# EAGLE library part PAN132X (library BluetoothBLE_SPP)
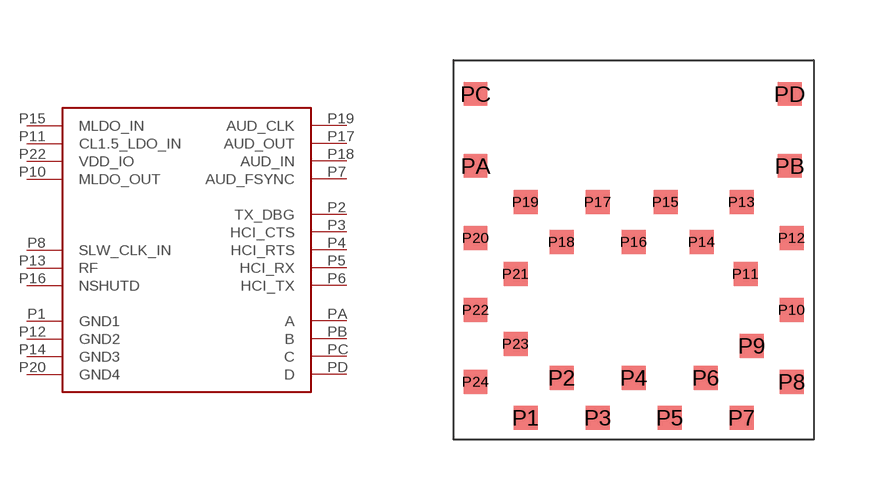
[diagram p0: symbol with the pads of PAN13XX; footprint PAN13XX]

Designator prefix -

## PAN132X  [PAN13XX]
P1  GND1
P2  TX_DBG  out
P3  HCI_CTS  in
P4  HCI_RTS  out
P5  HCI_RX  in
P6  HCI_TX  out
P7  AUD_FSYNC
P8  SLW_CLK_IN  in
P10  MLDO_OUT  pwr
P11  CL1.5_LDO_IN  pwr
P12  GND2
P13  RF
P14  GND3
P15  MLDO_IN  pwr
P16  NSHUTD  in
P17  AUD_OUT
P18  AUD_IN
P19  AUD_CLK
P20  GND4
P22  VDD_IO  pwr
PA  A
PB  B
PC  C
PD  D

## Footprint PAN13XX (pad centres in mm)
Footprint for the PAN13XX Series Bluetooth Modules https://pideu.panasonic.de/products/wireless-modules/bluetooth/bluetooth-40-dual-mode/pan131626-nowith-antenna-hci-smart-ready-EN.html#tab3
smd 0.6 x 0.6: P1 -2.7,-2.7; P2 -1.8,-1.7; P3 -0.9,-2.7; P4 0,-1.7; P5 0.9,-2.7; P6 1.8,-1.7; P7 2.7,-2.7; P8 3.95,-1.8; P9 2.95,-0.9; P10 3.95,0; P11 2.8,0.9; P12 3.95,1.8; P13 2.7,2.7; P14 1.7,1.7; P15 0.8,2.7; P16 0,1.7; P17 -0.9,2.7; P18 -1.8,1.7; P19 -2.7,2.7; P20 -3.95,1.8; P21 -2.95,0.9; P22 -3.95,0; P23 -2.95,-0.85; P24 -3.95,-1.8; PA -3.95,3.6; PB 3.9,3.6; PC -3.95,5.4; PD 3.9,5.4